# Altium footprint library STM8 Relatives.PcbLib: 36 footprints (part 2 of 3)
Each footprint in its own frame and in the unit in brackets; x right, y up, seen from the top. Pads: shape width x height; smd on the part's side, far side on the other; paste and mask are expansions set on the pad; w line width, h text height; cw(c..) or ccw(c..) is an arc to the next point about the centre after c.
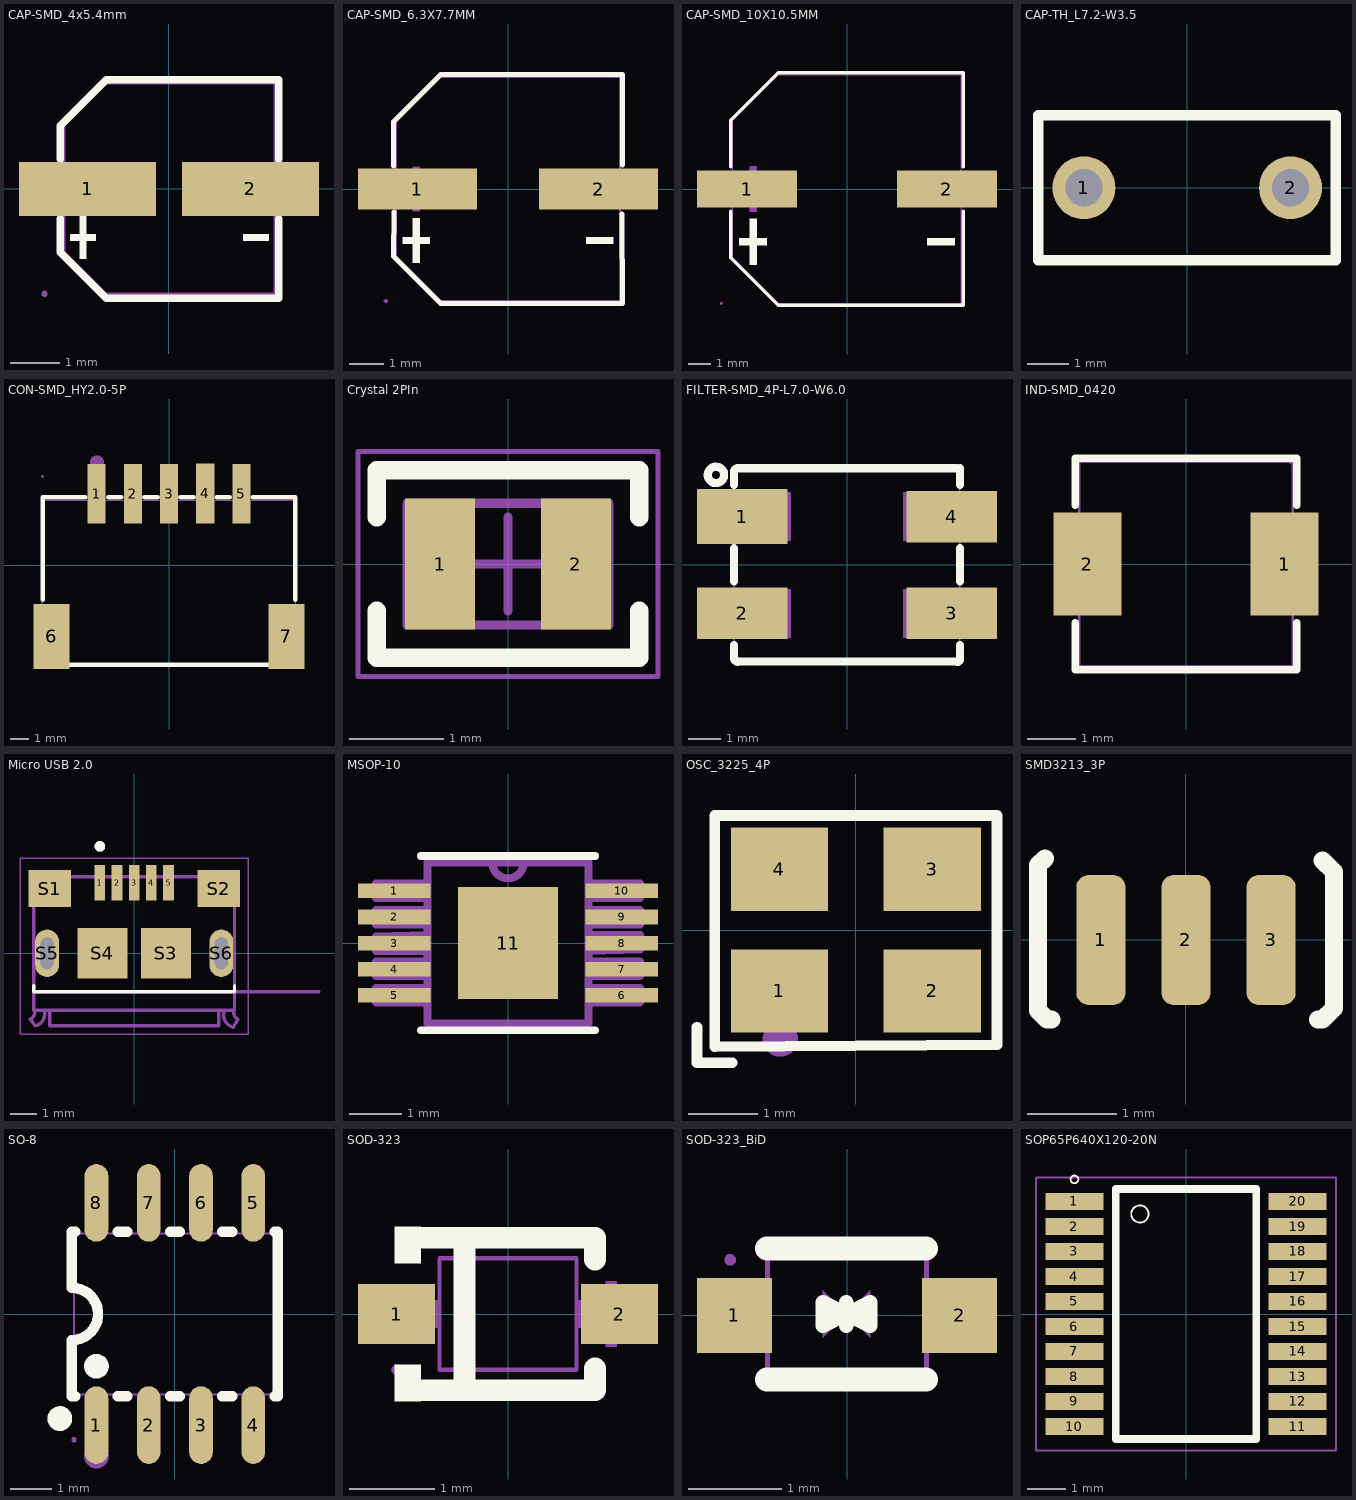
[diagram p1: the footprints below, top view; thin cyan lines are the x and y axes]

## CAP-SMD_4x5.4mm [mm]
pads (2):
  rect 2.8x1.1 smd: 1(-1.661,0) 2(1.661,0)
Top Overlay:
  region: 2.031,-0.925 2.031,-1.054 1.515,-1.054 1.515,-0.925
  region: -2.011,-0.925 -2.011,-1.054 -1.495,-1.054 -1.495,-0.925
  region: -1.818,-0.559 -1.818,-1.419 -1.689,-1.419 -1.689,-0.559
  lines w0.152: -2.217,-0.607 -2.217,-1.29 -1.28,-2.226 2.236,-2.226 2.236,-0.607 ; -2.217,0.607 -2.217,1.29 -1.28,2.226 2.236,2.226 2.236,0.607
Mechanical 6:
  region: 2.031,0.064 2.031,-0.065 1.515,-0.065 1.515,0.064
  region: -2.011,0.064 -2.011,-0.065 -1.495,-0.065 -1.495,0.064
  region: -1.818,0.43 -1.818,-0.43 -1.689,-0.43 -1.689,0.43
Mechanical 15:
  region: -2.481,-2.141 -2.481,-2.116 -2.516,-2.081 -2.566,-2.081 -2.601,-2.116 -2.601,-2.141 -2.601,-2.166 -2.566,-2.201 -2.516,-2.201 -2.481,-2.166
  region: -2.541,0.325 -0.491,0.325 -0.491,-0.325 -2.541,-0.325
  region: 0.509,0.325 2.559,0.325 2.559,-0.325 0.509,-0.325
  lines w0.051: -2.141,-1.281 -1.281,-2.141 2.159,-2.141 2.159,2.159 -1.281,2.159 -2.141,1.299 -2.141,-1.281
3D body "CAPAE430X550N.stp": height 5.8, standoff 0, extent -2.424,-2.15 2.576,2.15

## CAP-SMD_6.3X7.7MM [mm]
pads (2):
  rect 3.5x1.2 smd: 1(-2.67,0) 2(2.67,0)
Top Overlay:
  region: 3.102,-1.419 3.102,-1.617 2.31,-1.617 2.31,-1.419
  region: -3.102,-1.419 -3.102,-1.617 -2.31,-1.617 -2.31,-1.419
  region: -2.805,-0.858 -2.805,-2.178 -2.607,-2.178 -2.607,-0.858
  lines w0.152: -3.376,0.686 -3.376,1.98 -1.98,3.376 3.376,3.376 3.369,0.708 ; -3.362,-0.686 -3.376,-1.981 -1.981,-3.376 3.376,-3.376 3.356,-0.739
Mechanical 6:
  region: 3.102,0.099 3.102,-0.099 2.31,-0.099 2.31,0.099
  region: -3.102,0.099 -3.102,-0.099 -2.31,-0.099 -2.31,0.099
  region: -2.805,0.66 -2.805,-0.66 -2.607,-0.66 -2.607,0.66
Mechanical 15:
  region: -3.6,0.35 -0.95,0.35 -0.95,-0.35 -3.6,-0.35
  region: 0.95,0.35 3.6,0.35 3.6,-0.35 0.95,-0.35
  region: -3.54,-3.3 -3.541,-3.276 -3.576,-3.242 -3.624,-3.242 -3.659,-3.276 -3.66,-3.3 -3.659,-3.324 -3.624,-3.358 -3.576,-3.358 -3.541,-3.324
  lines w0.051: -3.3,-1.98 -3.3,1.98 -1.98,3.3 3.3,3.3 3.3,-3.3 -1.98,-3.3 -3.3,-1.98
3D body "CAPAE660X800N.stp": height 7.7, standoff 0, extent -3.624,-3.325 3.676,3.275

## CAP-SMD_10X10.5MM [mm]
pads (2):
  rect 4.5x1.65 smd: 1(-4.5,0) 2(4.5,0)
Top Overlay:
  region: -4.378,-1.339 -4.378,-3.399 -4.068,-3.399 -4.068,-1.339
  region: -4.841,-2.214 -4.841,-2.523 -3.605,-2.523 -3.605,-2.214
  region: 4.841,-2.214 4.841,-2.523 3.605,-2.523 3.605,-2.214
  lines w0.152: -5.226,-1.005 -5.226,-3.09 -3.09,-5.226 5.226,-5.226 5.226,-1.005 ; -5.226,1.005 -5.226,3.09 -3.09,5.226 5.226,5.226 5.226,1.005
Mechanical 6:
  region: -4.378,1.03 -4.378,-1.03 -4.068,-1.03 -4.068,1.03
  region: -4.841,0.155 -4.841,-0.155 -3.605,-0.155 -3.605,0.155
  region: 4.841,0.155 4.841,-0.155 3.605,-0.155 3.605,0.155
Mechanical 15:
  region: -5.59,-5.15 -5.59,-5.125 -5.625,-5.091 -5.675,-5.091 -5.71,-5.125 -5.71,-5.15 -5.71,-5.175 -5.675,-5.209 -5.625,-5.209 -5.59,-5.175
  region: 2.3,0.475 5.65,0.475 5.65,-0.475 2.3,-0.475
  region: -5.65,0.475 -2.3,0.475 -2.3,-0.475 -5.65,-0.475
  lines w0.051: -5.15,-3.09 -3.09,-5.15 5.15,-5.15 5.15,5.15 -3.09,5.15 -5.15,3.09 -5.15,-3.09
3D body "CAPAE1030X1050N.stp": height 10.2, standoff 0, extent -5.799,-5.124 5.901,5.176

## CAP-TH_L7.2-W3.5 [mil]
pads (2):
  round 60 hole 35.43: 1(-98.42,0) 2(98.43,0)
Top Overlay:
  lines w10: -141.74,-68.9 141.73,-68.9 141.73,68.9 -141.74,68.9 -141.74,-68.9
Mechanical 15:
  region: -139.37,-68.9 -139.37,-67.92 -140.75,-66.54 -142.71,-66.54 -144.09,-67.92 -144.09,-68.9 -144.09,-69.88 -142.71,-71.26 -140.75,-71.26 -139.37,-69.88 -139.37,-68.9
  region: 108.27,0 108.23,1.93 106.7,5.49 103.94,8.19 100.36,9.66 96.49,9.66 92.91,8.19 90.15,5.49 88.62,1.93 88.59,0 88.62,-1.93 90.15,-5.49 92.91,-8.19 96.49,-9.66 100.36,-9.66 103.94,-8.19 106.7,-5.49 108.23,-1.93 108.27,0
  region: -88.58,0 -88.62,1.93 -90.15,5.49 -92.91,8.19 -96.49,9.66 -100.36,9.66 -103.94,8.19 -106.7,5.49 -108.23,1.93 -108.26,0 -108.23,-1.93 -106.7,-5.49 -103.94,-8.19 -100.36,-9.66 -96.49,-9.66 -92.91,-8.19 -90.15,-5.49 -88.62,-1.93 -88.58,0
  lines w2: -141.73,-68.9 141.73,-68.9 141.73,68.9 -141.73,68.9 -141.73,-68.9
3D body "C393118_CAP-TH_L7.2-W3.5-H7.5-P5.0.step": height 287.4, standoff -137.8, extent -139.73,-69.89 143.74,67.94

## CON-SMD_HY2.0-5P [mm]
pads (7):
  rect 1x3.3 smd paste+0 mask+0.05: 1(-4,3.95) 2(-2,3.95) 3(0,3.95) 4(2.007,3.962) 5(4,3.95)
  rect 2x3.6 smd paste+0 mask+0.05: 6(-6.5,-3.95) 7(6.5,-3.95)
Top Overlay:
  lines w0.254: -6.985,-1.919 -6.985,3.749 -4.631,3.749 ; -5.969,-5.522 5.969,-5.522 ; -3.369,3.749 -2.631,3.749 ; -1.369,3.749 -0.631,3.749 ; 0.631,3.749 1.369,3.749 ; 2.631,3.749 3.369,3.749 ; 4.631,3.749 6.985,3.749 6.985,-1.919
Mechanical 6:
  circle w0.4: c-3.984,5.668 r0.2
Mechanical 15:
  region: 6.6,-2.6 7,-2.6 7,-5.5 6.6,-5.5
  region: -7,-2.6 -6.6,-2.6 -6.6,-5.5 -7,-5.5
  region: -4.25,4.9 -3.75,4.9 -3.75,2.4 -4.25,2.4
  region: -2.25,4.9 -1.75,4.9 -1.75,2.4 -2.25,2.4
  region: -0.25,4.9 0.25,4.9 0.25,2.4 -0.25,2.4
  region: 1.75,4.9 2.25,4.9 2.25,2.4 1.75,2.4
  region: 3.75,4.9 4.25,4.9 4.25,2.4 3.75,2.4
  region: -6.94,4.9 -6.94,4.925 -6.975,4.96 -7.025,4.96 -7.06,4.925 -7.06,4.9 -7.06,4.875 -7.025,4.84 -6.975,4.84 -6.94,4.875
  lines w0.051: -7,-5.5 7,-5.5 7,3.6 -7,3.6 -7,-5.5
3D body "C722730_CONN-SMD_HY2.0-5P-WT.step": height 5.09, standoff -0.11, extent -6.949,-5.538 7.052,4.862

## Crystal 2PIn [mm] "Crystal, 2-Leads, Body 1.20x2.00mm, Pitch 1.50mm, IPC Medium Density"
height 0.6
pads (2):
  rect 0.75x1.4 smd: 1(-0.725,0) 2(0.725,0)
Top Overlay:
  lines w0.2: -1.4,-0.5 -1.4,-1 0,-1 1.4,-1 1.4,-0.5 ; -1.4,0.5 -1.4,1 1.4,1 1.4,0.5
Mechanical 13:
  lines w0.1: -1.075,-0.65 -1.075,0.65 1.075,0.65 1.075,-0.65 -1.075,-0.65
Mechanical 15:
  lines w0.05: -1.6,-1.2 -1.6,1.2 1.6,1.2 1.6,-1.2 -1.6,-1.2
  lines w0.1: -0.5,0 0.5,0 ; 0,-0.5 0,0.5
3D body "Abracon ABS06.STEP": height 0.6, standoff 0, extent -1.025,-0.625 1.025,0.625

## FILTER-SMD_4P-L7.0-W6.0 [mm]
pads (4):
  rect 2.8x1.7 smd: 1(-3.251,1.5)
  rect 2.8x1.6 smd: 2(-3.251,-1.5) 3(3.251,-1.5) 4(3.251,1.5)
Top Overlay:
  circle w0.254: c-4.064,2.794 r0.254
  lines w0.254: -3.5,-2.48 -3.5,-2.888 ccw(c-3.388,-2.888) -3.388,-2.999 ; -3.5,-0.516 -3.5,0.516 ; -3.5,2.48 -3.5,2.889 cw(c-3.388,2.889) -3.388,3.001 ; -3.378,-2.997 -1.6,-2.997 1.651,-2.997 3.429,-2.997 ; -3.378,2.998 -1.6,2.998 1.651,2.998 3.378,2.998 ; 3.388,3.001 cw(c3.388,2.889) 3.5,2.889 ; 3.429,-2.999 ccw(c3.429,-2.928) 3.5,-2.929 3.5,-2.48 ; 3.5,-0.516 3.5,0.516 ; 3.5,2.48 3.5,2.998
Mechanical 15:
  region: 3.5,-2.25 1.75,-2.25 1.75,-0.75 3.5,-0.75
  region: 3.5,0.75 1.75,0.75 1.75,2.25 3.5,2.25
  region: -3.5,-0.75 -1.75,-0.75 -1.75,-2.25 -3.5,-2.25
  region: -3.5,2.25 -1.75,2.25 -1.75,0.75 -3.5,0.75
  region: -3.44,3 -3.44,3.025 -3.475,3.06 -3.525,3.06 -3.56,3.025 -3.56,3 -3.56,2.975 -3.525,2.94 -3.475,2.94 -3.44,2.975
  lines w0.051: -3.5,-3 -3.5,3 3.5,3 3.5,-3 -3.5,-3
3D body "C78246_FILTER-SMD_4P-L7.0-W6.0-TL_ACM7060F.step": height 3.8, standoff 0, extent -3.52,-2.99 3.5,3.01

## IND-SMD_0420 [mm]
pads (2):
  rect 1.4x2.12 smd: 1(2.028,0) 2(-2.028,0)
Top Overlay:
  lines w0.152: -2.276,-1.212 -2.276,-2.176 2.276,-2.176 2.276,-1.212 ; -2.276,1.212 -2.276,2.176 2.276,2.176 2.276,1.212
Mechanical 15:
  region: -2.2,1 -1.4,1 -1.4,-1 -2.2,-1
  region: 1.4,1 2.2,1 2.2,-1 1.4,-1
  region: 2.26,2.1 2.259,2.124 2.224,2.158 2.176,2.158 2.141,2.124 2.14,2.1 2.141,2.076 2.176,2.042 2.224,2.042 2.259,2.076
  lines w0.051: -2.2,-2.1 2.2,-2.1 2.2,2.1 -2.2,2.1 -2.2,-2.1
3D body "IND_SMD_POW_INTMOD_0420.STEP": height 1.81, standoff -0.2, extent -2.15,-1.974 2.15,2.025

## Micro USB 2.0 [mm]
height 2.55
pads (11):
  rect 0.4x1.35 smd: 1(-1.3,2.675) 2(-0.65,2.675) 3(0,2.675) 4(0.65,2.675) 5(1.3,2.675)
  rect 1.6x1.4 smd: S1(-3.2,2.45) S2(3.2,2.45)
  rect 1.9x1.9 smd: S3(1.2,0) S4(-1.2,0)
  oval 0.9x1.8 hole 0.5 slot 1.2 at 90 deg: S5(-3.3,0) S6(3.3,0)
Top Overlay:
  circle w0.2: c-1.3,4.05 r0.1
  lines w0.127: -3.8,-1.22 -3.8,-1.45 3.8,-1.45 3.8,-1.22
Mechanical 13:
  circle w0.2: c-1.3,4.05 r0.1
  lines w0.127: -3.93,-2.5 -3.75,-2.75 ; -3.93,-2.5 ccw(c-4.065,-2.235) -3.8,-2.1 ; -3.8,-1.45 3.8,-1.45 ; -3.746,-2.749 ccw(c-3.85,-2.3) -3.401,-2.196 ; -3.2,-2.2 -3.2,-2.75 3.2,-2.75 3.2,-2.2 ; 3.401,-2.198 ccw(c3.875,-2.325) 3.748,-2.799 ; 3.75,-2.8 3.93,-2.5 ; 3.8,-2.1 ccw(c4.065,-2.235) 3.93,-2.5 ; 7,-1.45 3.8,-1.45 ; -3.8,-2.1 -3.8,2.9 3.8,2.9 3.8,-1.45 ; -3.8,-2.1 -3.8,-2.15 3.8,-2.15 3.8,-1.45
  text "PCB END" at 4.85,-1.2 h0.41
Mechanical 15:
  lines w0.05: -4.32,-3.066 4.32,-3.066 4.32,3.6 -4.32,3.6 -4.32,-3.066
3D body "step_temp.STEP": height 2.87, standoff -0.73, extent -3.928,-2.794 3.928,2.867

## MSOP-10 [mil] "MSOP For CH340-E Use"
pads (11):
  rect 55x11 smd: 1(-86,39.4) 2(-86,19.7) 3(-86,0) 4(-86,-19.7) 5(-86,-39.4) 6(86,-39.4) 7(86,-19.7) 8(86,0) 9(86,19.7) 10(86,39.4)
  rect 76x85 smd: 11(0,0)
Top Overlay:
  lines w6: -66,-66 66,-66 ; -66,66 66,66
Mechanical 13:
  lines w6: -12,61 ccw(c0,61) 12,61 ; -12,61 12,61 ; -12,61 -61,61 -61,-61 61,-61 61,61 12,61 ; -100,-45 -100,-34 -61,-34 -61,-45 -100,-45 ; -100,-25 -100,-14 -61,-14 -61,-25 -100,-25 ; -100,-6 -100,5 -61,6 -61,-6 -100,-6 ; -100,14 -100,25 -61,25 -61,14 -100,14 ; -100,34 -100,45 -61,45 -61,34 -100,34 ; 61,-45 61,-34 100,-34 100,-45 61,-45 ; 61,-25 61,-14 100,-14 100,-25 61,-25 ; 61,-6 61,6 100,6 100,-5 61,-6 ; 61,14 61,25 100,25 100,14 61,14 ; 61,34 61,45 100,45 100,34 61,34
3D body "step_temp.STEP": height 42.47, standoff -0.83, extent -96.45,-59.05 96.46,59.06

## OSC_3225_4P [mm]
height 1.45
pads (4):
  rect 1.4x1.2 smd: 1(-1.1,-0.875) 2(1.1,-0.875) 3(1.1,0.875) 4(-1.1,0.875)
Top Overlay:
  lines w0.152: -2.286,-1.397 -2.286,-1.905 -1.778,-1.905 ; -2.029,-1.679 2.032,-1.651 2.032,0 2.032,1.651 -2.029,1.651 -2.029,-1.679
Mechanical 15:
  circle w0.254: c-1.088,-1.567 r0.127
  region: -1.486,-0.428 -1.45,-0.428 -1.45,-1.004 -1.486,-1.004
  region: -1.522,-0.428 -1.486,-0.428 -1.486,-1.004 -1.522,-1.004
  region: -1.63,-0.464 -1.594,-0.464 -1.594,-0.572 -1.63,-0.572
  region: -1.594,-0.464 -1.558,-0.464 -1.558,-1.004 -1.594,-1.004
  region: -1.666,-0.5 -1.63,-0.5 -1.63,-0.608 -1.666,-0.608
  region: -1.702,-0.536 -1.666,-0.536 -1.666,-0.608 -1.702,-0.608
  region: -1.738,-0.536 -1.702,-0.536 -1.702,-0.608 -1.738,-0.608
  region: -1.558,-0.428 -1.522,-0.428 -1.522,-1.004 -1.558,-1.004
3D body "User Library-SMD-3225_4P.STEP": height 1.05, standoff 0, extent -1.6,-1.25 1.6,1.25

## SMD3213_3P [mm]
height 4.3
pads (3):
  rrect50% 0.55x1.45 smd: 1(-0.95,0) 2(0,0) 3(0.95,0)
Top Overlay:
  lines w0.2: -1.576,0.911 -1.651,0.836 -1.651,-0.789 -1.551,-0.889 -1.501,-0.889 ; 1.474,-0.889 1.524,-0.889 1.651,-0.762 1.651,0.762 1.524,0.889
3D body: height 0, standoff 0, extent 1.474,-0.89 1.652,0.89
3D body: height 0, standoff 0, extent 1.474,-0.89 1.652,0.89
3D body "123123123.stp": height 0.7, standoff 0, extent -1.6,-0.65 1.6,0.65

## SO-8 [mm]
pads (8):
  oval 0.574x1.888 smd: 1(-1.905,-2.699) 2(-0.635,-2.699) 3(0.635,-2.699) 4(1.905,-2.699) 5(1.905,2.699) 6(0.635,2.699) 7(-0.635,2.699) 8(-1.905,2.699)
Top Overlay:
  circle w0.3: c-1.905,-1.27 r0.15
  circle w0.3: c-2.794,-2.54 r0.15
  lines w0.254: -2.421,-2 -2.5,-2 -2.5,-0.635 ccw(c-2.5,0) -2.499,0.635 -2.5,2 -2.421,2 ; -1.389,-2 -1.151,-2 ; -1.389,2 -1.151,2 ; -0.119,-2 0.119,-2 ; -0.119,2 0.119,2 ; 1.151,-2 1.389,-2 ; 1.151,2 1.389,2 ; 2.421,-2 2.5,-2 2.5,2 2.421,2
Mechanical 6:
  circle w0.3: c-1.905,-3.45 r0.15
Mechanical 15:
  region: -2.39,-3.05 -2.39,-3.025 -2.425,-2.99 -2.475,-2.99 -2.51,-3.025 -2.51,-3.05 -2.51,-3.075 -2.475,-3.11 -2.425,-3.11 -2.39,-3.075
  region: -2.11,-3.05 -2.11,-2.54 -1.7,-2.54 -1.7,-3.05
  region: -2.11,-2.55 -2.11,-1.945 -1.7,-1.945 -1.7,-2.55
  region: -0.84,-3.05 -0.84,-2.54 -0.43,-2.54 -0.43,-3.05
  region: -0.84,-2.55 -0.84,-1.945 -0.43,-1.945 -0.43,-2.55
  region: 0.43,-3.05 0.43,-2.54 0.84,-2.54 0.84,-3.05
  region: 0.43,-2.55 0.43,-1.945 0.84,-1.945 0.84,-2.55
  region: 1.7,-3.05 1.7,-2.54 2.11,-2.54 2.11,-3.05
  region: 1.7,-2.55 1.7,-1.945 2.11,-1.945 2.11,-2.55
  region: -2.11,3.05 -2.11,2.54 -1.7,2.54 -1.7,3.05
  region: -2.11,2.55 -2.11,1.945 -1.7,1.945 -1.7,2.55
  region: -0.84,3.05 -0.84,2.54 -0.43,2.54 -0.43,3.05
  region: -0.84,2.55 -0.84,1.945 -0.43,1.945 -0.43,2.55
  region: 0.43,3.05 0.43,2.54 0.84,2.54 0.84,3.05
  region: 0.43,2.55 0.43,1.945 0.84,1.945 0.84,2.55
  region: 1.7,3.05 1.7,2.54 2.11,2.54 2.11,3.05
  region: 1.7,2.55 1.7,1.945 2.11,1.945 2.11,2.55
  lines w0.051: -2.45,-1.955 -2.45,1.955 2.45,1.955 2.45,-1.955 -2.45,-1.955
3D body "SO-8.STEP": height 1.75, standoff -0.18, extent -2.489,-3.08 2.511,3.182

## SOD-323 [mm]
pads (2):
  rect 0.9x0.7 smd paste+0 mask+0.05: 1(-1.3,0) 2(1.3,0)
Top Overlay:
  region: -1.016,-1.016 -1.016,-0.593 -1.321,-0.593 -1.321,-1.016
  region: -1.016,1.016 -1.016,0.593 -1.321,0.593 -1.321,1.016
  lines w0.254: -1.143,-0.889 -0.728,-0.889 ; -1.143,0.889 -0.889,0.889 0.889,0.889 1.016,0.889 1.016,0.635 ; -0.889,-0.889 0.889,-0.889 ; -0.508,-0.889 -0.508,0.889 ; 0.763,-0.889 1.016,-0.889 1.016,-0.635
Mechanical 6:
  region: -1.651,0 -0.889,0 -0.889,-0.127 -1.651,-0.127
  region: 1.143,-0.381 1.143,0.381 1.27,0.381 1.27,-0.381
  region: 0.826,0.064 1.587,0.064 1.587,-0.064 0.826,-0.064
Mechanical 15:
  region: -1.24,-0.65 -1.241,-0.626 -1.276,-0.593 -1.324,-0.593 -1.359,-0.626 -1.36,-0.65 -1.359,-0.674 -1.324,-0.707 -1.276,-0.707 -1.241,-0.674
  region: -1.035,-0.163 -1.035,0.163 -0.79,0.163 -0.79,-0.163
  region: -1.35,-0.163 -1.35,0.163 -1.025,0.163 -1.025,-0.163
  region: 0.79,-0.163 0.79,0.163 1.035,0.163 1.035,-0.163
  region: 1.025,-0.163 1.025,0.163 1.35,0.163 1.35,-0.163
  lines w0.051: -0.8,-0.65 -0.8,0.65 0.8,0.65 0.8,-0.65 -0.8,-0.65
3D body "SOD-323.step": height 0.99, standoff 0, extent -1.422,-0.673 1.27,0.673

## SOD-323_BiD [mm]
pads (2):
  rect 0.8x0.8 smd: 1(-1.205,0) 2(1.205,0)
Top Overlay:
  lines w0.154: -0.133,0.015 -0.003,0.015 0.248,0.142 0.248,-0.112 -0.004,0.012 ; -0.008,0.018 -0.26,0.142 -0.26,-0.112 -0.009,0.015 0.121,0.015 ; -0.006,-0.112 -0.006,0.142
  lines w0.254: -0.855,-0.685 0.845,-0.685 ; -0.855,0.715 0.845,0.715
Mechanical 6:
  region: -0.259,0.269 -0.259,-0.239 -0.005,0.015
  region: 0.249,-0.239 0.249,0.269 -0.005,0.015
Mechanical 15:
  region: -1.19,0.595 -1.191,0.619 -1.226,0.653 -1.274,0.653 -1.309,0.619 -1.31,0.595 -1.309,0.571 -1.274,0.537 -1.226,0.537 -1.191,0.571
  region: 0.835,-0.162 0.835,0.163 0.955,0.163 0.955,-0.162
  region: 0.945,-0.162 0.945,0.163 1.25,0.163 1.25,-0.162
  region: -0.965,-0.162 -0.965,0.163 -0.845,0.163 -0.845,-0.162
  region: -1.25,-0.162 -1.25,0.163 -0.955,0.163 -0.955,-0.162
  lines w0.051: -0.85,-0.625 -0.85,0.625 0.85,0.625 0.85,-0.625 -0.85,-0.625
3D body "SOD-323.step": height 0.99, standoff 0, extent -1.32,-0.673 1.372,0.673

## SOP65P640X120-20N [mm]
pads (20):
  rect 1.5x0.45 smd: 1(-2.9,2.925) 2(-2.9,2.275) 3(-2.9,1.625) 4(-2.9,0.975) 5(-2.9,0.325) 6(-2.9,-0.325) 7(-2.9,-0.975) 8(-2.9,-1.625) 9(-2.9,-2.275) 10(-2.9,-2.925) 11(2.9,-2.925) 12(2.9,-2.275) 13(2.9,-1.625) 14(2.9,-0.975) 15(2.9,-0.325) 16(2.9,0.325) 17(2.9,0.975) 18(2.9,1.625) 19(2.9,2.275) 20(2.9,2.925)
Top Overlay:
  circle w0.05: c-1.2,2.6 r0.224
  circle w0.05: c-1.2,2.6 r0.224
  circle w0.05: c-2.9,3.5 r0.1
  lines w0.2: -1.825,-3.25 1.825,-3.25 1.825,3.25 -1.825,3.25 -1.825,-3.25
Mechanical 15:
  lines w0.05: -3.9,-3.55 3.9,-3.55 3.9,3.55 -3.9,3.55 -3.9,-3.55
3D body "STM8S103F3P3.STEP": height 1.16, standoff -0.04, extent -3.327,-3.25 3.073,3.25